# EAGLE library part PJ85775 (library Bauteile)
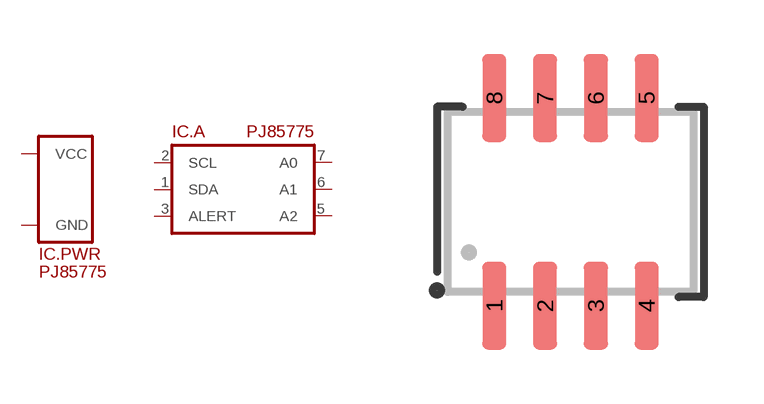
[diagram p188: symbol with the pads of SOP8; footprint SOP8]

Designator prefix IC; gates .PWR=SUPPLY_VCC/GND .A=PJ85775

## PJ85775 (ID: PJ85775P_R2_00301)  [SOP8]
1  .A:SDA
2  .A:SCL
3  .A:ALERT
4  .PWR:GND
5  .A:A2
6  .A:A1
7  .A:A0
8  .PWR:VCC

## Footprint SOP8 (pad centres in mm)
smd 0.6 x 2.2: 1 -1.905,-2.6; 2 -0.635,-2.6; 3 0.635,-2.6; 4 1.905,-2.6; 5 1.905,2.6; 6 0.635,2.6; 7 -0.635,2.6; 8 -1.905,2.6